# Altium integrated library IC - ECL.IntLib: 34 symbols
Pins are listed as number, name and electrical type; pins without a type are passive.

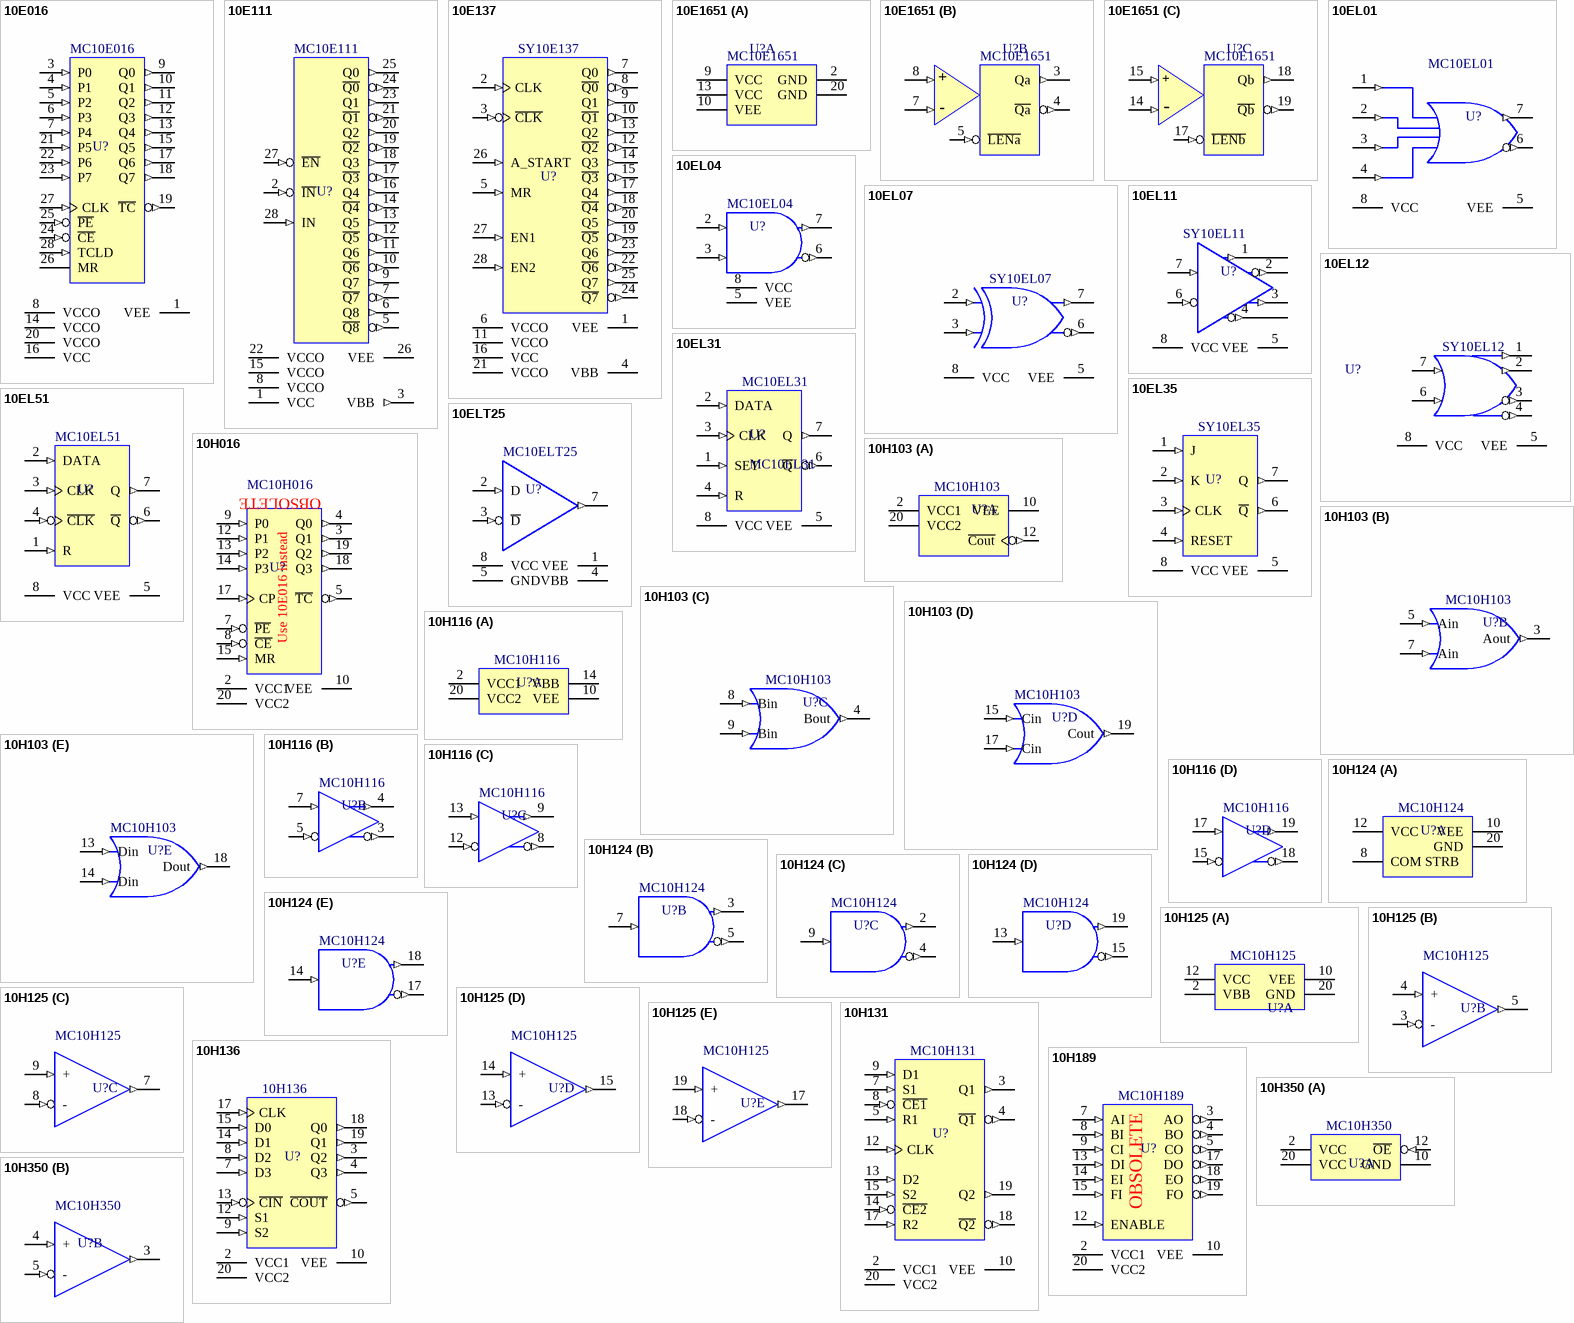
[diagram p0: symbols 10E016 to 10H350]

## 10E016
designator U?, comment MC10E016
Counter, Binary Up, Synchronous, 8-Bit, 5V, ECL; Manufacturer: ON Semiconductor; Current Output High: 100mA; Current Output Low: 50mA; Logic Type: Binary Counter; Output Type: Differential; Supply Voltage: -4.2V to -5.7V in NECL mode; Supply Voltage2: 4.2V to 5.7V in PECL mode; Package Description: PLCC; 28 Leads; Body 11.5 x 11.5 mm; Schmitt Trigger Output: *; Supplier 1: Digi-Key; Supplier 2: Mouser; Supplier 3: Newark; Supplier Part Number 1: 576-2482-ND; Supplier Part Number 2: 998-SY10E016JY; Supplier Part Number 3: 26K3738; Package Type: PLCC-28; ComponentLink1Description: Datasheet; ComponentLink1URL: \\canopus\EDA\Datasheets\ECL\10E016.pdf; Part Number: MC10E016
footprint PLCC-28 (PLCC; 28 Leads; Body 11.5 x 11.5 mm)
ibis MC10E016FN (MC10E016 simulation)
signal-integrity model MC10E016 (MC10E016 IBIS Signal Integrity Model)
3D model PLCC-28 (PCB3D Model)
pins: 1 VEE (power), 3 P0 (in), 4 P1 (in), 5 P2 (in), 6 P3 (in), 7 P4 (in), 8 VCCO (power), 9 Q0 (out), 10 Q1 (out), 11 Q2 (out), 12 Q3 (out), 13 Q4 (out), 14 VCCO (power), 15 Q5 (out), 16 VCC (power), 17 Q6 (out), 18 Q7 (out), 19 ~{TC} (out), 20 VCCO (power), 21 P5 (in), 22 P6 (in), 23 P7 (in), 24 ~{CE} (in), 25 ~{PE} (in), 26 MR, 27 CLK (in), 28 TCLD (in)

## 10E111
designator U?, comment MC10E111
Differential Clock Driver, 1:9, 5V, ECL; Manufacturer: ON Semiconductor; Current Output High: 100mA; Current Output Low: 50mA; Supply Voltage: -4.2 V to -5.7 V in NECL mode; Supply Voltage2: 4.2 V to 5.7 V in PECL mode; Logic Type: Clock Driver; Output Type: Differential; Package Description: PLCC; 28 Leads; Body 11.5 x 11.5 mm; Schmitt Trigger Output: *; Package Type: PLCC-28; Supplier 1: Digi-Key; Supplier Part Number 1: MC10E111FNGOS-ND; Supplier 2: Newark; Supplier Part Number 2: 71J5374; Supplier 3: Mouser; Supplier Part Number 3: 863-MC10E111FNG; ComponentLink1Description: Datasheet; ComponentLink1URL: \\canopus\EDA\Datasheets\ECL\10E111.PDF; Part Number: MC10E111
footprint PLCC-28 (PLCC; 28 Leads; Body 11.5 x 11.5 mm)
ibis MC10E111FN_50.IBS (10E111 simulation)
3D model PLCC-28 (PCB3D Model)
signal-integrity model MC10E111 (MC10E111 IBIS signal integrity model)
pins: 1 VCC (power), 2 ~{IN} (in), 3 VBB (out), 5 ~{Q8} (out), 6 Q8 (out), 7 ~{Q7} (out), 8 VCCO (power), 9 Q7 (out), 10 ~{Q6} (out), 11 Q6 (out), 12 ~{Q5} (out), 13 Q5 (out), 14 ~{Q4} (out), 15 VCCO (power), 16 Q4 (out), 17 ~{Q3} (out), 18 Q3 (out), 19 ~{Q2} (out), 20 Q2 (out), 21 ~{Q1} (out), 22 VCCO (power), 23 Q1 (out), 24 ~{Q0} (out), 25 Q0 (out), 26 VEE (power), 27 ~{EN} (in), 28 IN (in)

## 10E137
designator U?, comment SY10E137
Counter, Binary, 8-bit ripple, ECL; Manufacturer: Micrel Inc.; Output Type: Differential; Supply Voltage: 4.2V to 5.5V; Current Output High: *; Current Output Low: *; Logic Type: Counter; Package Type: PLCC-28; Schmitt Trigger Output: *; Supply Voltage2: *; Supplier 1: Digi-Key; Supplier Part Number 1: 576-2491-ND; Supplier 2: Mouser; Supplier Part Number 2: 998-SY10E137JZ; Package Description: PLCC; 28 Leads; Body 11.5 x 11.5 mm; ComponentLink1Description: Datasheet; ComponentLink1URL: \\canopus\EDA\Datasheets\ECL\10E137.PDF; Part Number: SY10E137
footprint PLCC-28 (PLCC; 28 Leads; Body 11.5 x 11.5 mm)
ibis MC10E137FN (10E137 simulation)
signal-integrity model 10E137 (10E137 IBIS Signal Integrity Model)
3D model PLCC-28 (PCB3D Model)
pins: 1 VEE (power), 2 CLK (in), 3 ~{CLK} (in), 4 VBB, 5 MR (in), 6 VCCO (power), 7 Q0 (out), 8 ~{Q0} (out), 9 Q1 (out), 10 ~{Q1} (out), 11 VCCO (power), 12 ~{Q2} (out), 13 Q2 (out), 14 Q3 (out), 15 ~{Q3} (out), 16 VCC (power), 17 Q4 (out), 18 ~{Q4} (out), 19 ~{Q5} (out), 20 Q5 (out), 21 VCCO (power), 22 ~{Q6} (out), 23 Q6 (out), 24 ~{Q7} (out), 25 Q7 (out), 26 A_START (in), 27 EN1 (in), 28 EN2 (in)

## 10E1651
designator U?, comment MC10E1651
Comparator with Latch, 5V, -5V, ECL; Manufacturer: ON Semiconductor; Current Output High: 100mA; Current Output Low: 50mA; Output Type: Differential; Supply Voltage: -4.2V to -5.7V, 5.0V; Logic Type: Comparator; Package Type: 9 x 9 J-Leaded; Schmitt Trigger Output: *; Supply Voltage2: *; Supplier 1: Mouser; Supplier 2: Digi-Key; Supplier 3: Newark; Supplier Part Number 1: 863-MC10E1651FNG; Supplier Part Number 2: MC10E1651FNOS-ND; Supplier Part Number 3: 26K3751; Package Description: PLCC; 20 Leads; Body 9 x 9 mm; ComponentLink1Description: Datasheet; ComponentLink1URL: \\canopus\EDA\Datasheets\ECL\10E1651.pdf; Part Number: MC10E1651
footprint PLCC-20 (PLCC; 20 Leads; Body 9 x 9 mm)
ibis MC10E1651FN (10E1651 simulation)
3D model PLCC-20 (PCB3D Model)
signal-integrity model MC10E1651 (MC10E1651 IBIS Signal Integrity Model)
part A pins: 2 GND (power), 9 VCC (power), 10 VEE (power), 13 VCC (power), 20 GND (power)
part B pins: 3 Qa (out), 4 ~{Qa} (out), 5 ~{LENa} (in), 7 V1a (in), 8 V2a (in)
part C pins: 14 V1b (in), 15 V2b (in), 17 ~{LENb} (in), 18 Qb (out), 19 ~{Qb} (out)
part B text: +; -
part C text: +; -

## 10EL01
designator U?, comment MC10EL01
OR/NOR Gate, 5V, ECL; Manufacturer: ON Semiconductor; Current Output High: 100mA; Current Output Low: 50mA; Output Type: Differential; Supply Voltage: -4.2V to -5.7V in NECL mode; Supply Voltage2: 4.2V to 5.7V in PECL mode; Logic Type: OR/NOR; Package Type: SOIC-8; Schmitt Trigger Output: *; Package Description: SOIC, 8-Leads, Body 4.9x3.9mm, Pitch 1.27mm, IPC Low Density; Supplier 1: Mouser; Supplier Part Number 1: 863-MC10EL01DG; Supplier 2: Digi-Key; Supplier Part Number 2: MC10EL01DGOS-ND; Supplier 3: Newark; Supplier Part Number 3: 45J0833; ComponentLink1Description: Datasheet; ComponentLink1URL: \\canopus\EDA\Datasheets\ECL\10EL01.pdf; Part Number: MC10EL01
footprint SOIC-8 (SOIC, 8-Leads, Body 4.9x3.9mm, Pitch 1.27mm, IPC Low Density)
ibis MC10EL01D_-52 (10EL01 simulation)
signal-integrity model 10EL01 (10EL01 IBIS Signal Integrity Model)
3D model SOIC-8 (PCB3D Model)
pins: 1 D0 (in), 2 D1 (in), 3 D2 (in), 4 D3 (in), 5 VEE (power), 6 /Q (out), 7 Q (out), 8 VCC (power)

## 10EL04
designator U?, comment MC10EL04
AND/NAND Gate, 5V, ECL; Manufacturer: ON Semiconductor; Output Type: Differential; Schmitt Trigger Output: No; Supply Voltage: -4.2V to -5.7V in NECL mode; Supply Voltage2: 4.2V to 5.7V in PECL mode; Current Output High: *; Current Output Low: *; Logic Type: AND/NAND; Package Description: SOIC, 8-Leads, Body 4.9x3.9mm, Pitch 1.27mm, IPC Low Density; Supplier 1: Newark; Supplier 2: Digi-Key; Supplier 3: Mouser; Supplier Part Number 1: 98H0612; Supplier Part Number 2: MC10EL04DGOS-ND; Supplier Part Number 3: 863-MC10EL04DTG; Package Type: SOIC-8; ComponentLink1Description: Datasheet; ComponentLink1URL: \\canopus\EDA\Datasheets\ECL\10EL04.PDF; Part Number: MC10EL04
footprint SOIC-8 (SOIC, 8-Leads, Body 4.9x3.9mm, Pitch 1.27mm, IPC Low Density)
ibis MC10EL04D (10EL04 simulation)
3D model SOIC-8 (PCB3D Model)
signal-integrity model 10EL04 (10EL04 IBIS Signal Integrity model)
pins: 2 D0 (in), 3 D1 (in), 5 VEE (power), 6 /Q (out), 7 Q (out), 8 VCC (power)

## 10EL07
designator U?, comment SY10EL07
XOR/XNOR Gate, 5V, ECL; Manufacturer: Micrel Inc.; Output Type: Differential; Supply Voltage: -4.75 to -5.5V; Supplier 1: Mouser; Supplier 2: Digi-Key; Supplier Part Number 1: 998-SY10EL07ZG; Supplier Part Number 2: 576-2503-ND; Current Output High: *; Current Output Low: *; Logic Type: XOR/XNOR; Package Description: SOIC, 8-Leads, Body 4.9x3.9mm, Pitch 1.27mm, IPC Low Density; Schmitt Trigger Output: *; Supply Voltage2: *; Package Type: SOIC-8; ComponentLink1Description: Datasheet; ComponentLink1URL: \\canopus\EDA\Datasheets\ECL\10EL07.pdf; Part Number: SY10EL07
footprint SOIC-8 (SOIC, 8-Leads, Body 4.9x3.9mm, Pitch 1.27mm, IPC Low Density)
ibis MC10EL07D_50 (10EL07 +5V simulation)
ibis MC10EL07D_-50 (10EL07 -5.2V simulation)
signal-integrity model 10EL07 5V (10EL07 5V IBIS Signal Integrity Model)
3D model SOIC-8 (PCB3D Model)
pins: 2 D0 (in), 3 D1 (in), 5 VEE (power), 6 /Q (out), 7 Q (out), 8 VCC (power)

## 10EL11
designator U?, comment SY10EL11
Fanout Buffer, Differential, 1:2, 5V/3.3V, ECL; Manufacturer: Micrel Inc.; Output Type: Differential Clock; Supply Voltage: 3.3V and 5.0V; Current Output High: *; Current Output Low: *; Package Description: SOIC, 8-Leads, Body 4.9x3.9mm, Pitch 1.27mm, IPC Low Density; Schmitt Trigger Output: *; Supply Voltage2: *; Supplier 1: Digi-Key; Supplier Part Number 1: 576-1370-ND; Supplier 2: Mouser; Supplier Part Number 2: 998-SY10EL11VZG; ComponentLink1Description: Datasheet; ComponentLink1URL: \\canopus\EDA\Datasheets\ECL\10EL11.pdf; Package Type: SOIC-8; Part Number: SY10EL11
ibis MC10EL11DT_50 (Model Description)
footprint SOIC-8 (SOIC, 8-Leads, Body 4.9x3.9mm, Pitch 1.27mm, IPC Low Density)
3D model SOIC-8 (PCB3D Model)
signal-integrity model 10EL11 (10EL11 IBIS Signal Integrity Model)
pins: 1 Q0 (out), 2 /Q0 (out), 3 Q1 (out), 4 /Q1 (out), 5 VEE (power), 6 /D (in), 7 D (in), 8 VCC (power)

## 10EL12
designator U?, comment SY10EL12
Driver, Low Impedance, non-inverting, 5V, ECL; Manufacturer: ON Semiconductor; Logic Type: Buffer/Line Driver; Output Type: OR/NOR; Supply Voltage: -4.2V to -5.7V in NECL mode; Supply Voltage2: 4.2V to 5.7V in PECL mode; Current Output High: *; Current Output Low: *; Package Description: SOIC, 8-Leads, Body 4.9x3.9mm, Pitch 1.27mm, IPC Low Density; Schmitt Trigger Output: *; Supplier 1: Digi-Key; Supplier 2: Mouser; Supplier Part Number 1: 576-2504-ND; Supplier Part Number 2: 998-SY10EL12ZG; Package Type: SOIC-8; ComponentLink1Description: Datasheet; ComponentLink1URL: \\canopus\EDA\Datasheets\ECL\10EL12.pdf; Part Number: SY10EL12
footprint SOIC-8 (SOIC, 8-Leads, Body 4.9x3.9mm, Pitch 1.27mm, IPC Low Density)
3D model SOIC-8 (PCB3D Model)
pins: 1 QA (out), 2 QB (out), 3 /QA (out), 4 /QB (out), 5 VEE (power), 6 D1 (in), 7 D0 (in), 8 VCC (power)

## 10EL31
designator U?, comment MC10EL31
Flip-Flop, D-type, with Set and Reset, 5V, ECL; Manufacturer: ON Semiconductor; Logic Type: D-type Flip-Flop; Output Type: Differential; Supply Voltage: -4.2V to -5.7V in NECL mode; Supply Voltage2: 4.2V to 5.7V in PECL mode; Current Output High: *; Current Output Low: *; Package Description: SOIC, 8-Leads, Body 4.9x3.9mm, Pitch 1.27mm, IPC Low Density; Schmitt Trigger Output: *; Supplier 1: Digi-Key; Supplier Part Number 1: MC10EL31DGOS-ND; Supplier 2: Mouser; Supplier Part Number 2: 863-MC10EL31DG; Supplier 3: Newark; Supplier Part Number 3: 27W1136; Package Type: SOIC-8; ComponentLink1Description: Datasheet; ComponentLink1URL: \\canopus\EDA\Datasheets\ECL\10EL31.PDF; Part Number: MC10EL31
footprint SOIC-8 (SOIC, 8-Leads, Body 4.9x3.9mm, Pitch 1.27mm, IPC Low Density)
ibis MC10EL31D_50 (10EL31 +5V simulation)
ibis MC10EL31D_-50 (10EL31 -5.2V simulation)
signal-integrity model Model Name (Model Description)
3D model SOIC-8 (PCB3D Model)
pins: 1 SET (in), 2 DATA (in), 3 CLK (in), 4 R (in), 5 VEE (power), 6 ~{Q} (out), 7 Q (out), 8 VCC (power)

## 10EL35
designator U?, comment SY10EL35
Flip-Flop, JK-type, 5V, ECL; Manufacturer: Micrel Inc.; Logic Type: Flip-Flop, JK Type; Output Type: Differential; Supply Voltage: -4.75V to -5.5V; Current Output High: *; Current Output Low: *; Package Description: SOIC, 8-Leads, Body 4.9x3.9mm, Pitch 1.27mm, IPC Low Density; Schmitt Trigger Output: *; Supply Voltage2: *; Package Type: SOIC-8; Supplier 1: Digi-Key; Supplier Part Number 1: SY10EL35ZG-ND; Supplier 2: Mouser; Supplier Part Number 2: 998-SY10EL35ZG; ComponentLink1Description: Datasheet; ComponentLink1URL: \\canopus\EDA\Datasheets\ECL\10EL35.pdf; Part Number: SY10EL35
footprint SOIC-8 (SOIC, 8-Leads, Body 4.9x3.9mm, Pitch 1.27mm, IPC Low Density)
ibis MC10EL35D (10EL35 simulation)
3D model SOIC-8 (PCB3D Model)
signal-integrity model 10EL35 (10EL35 IBIS Signal Integrity Model)
pins: 1 J (in), 2 K (in), 3 CLK (in), 4 RESET (in), 5 VEE (power), 6 ~{Q} (out), 7 Q (out), 8 VCC (power)

## 10EL51
designator U?, comment MC10EL51
Flip-Flop, D-type, with reset, 5V, ECL; Manufacturer: ON Semiconductor; Output Type: Differential; Supply Voltage: -4.2V to -5.7V; Current Output High: *; Current Output Low: *; Logic Type: D-Type; Package Description: SOIC, 8-Leads, Body 4.9x3.9mm, Pitch 1.27mm, IPC Low Density; Schmitt Trigger Output: *; Supply Voltage2: *; Supplier 1: Newark; Supplier Part Number 1: 98H0618; Supplier 2: Digi-Key; Supplier Part Number 2: MC10EL51DGOS-ND; Package Type: SOIC-8; ComponentLink1Description: Datasheet; ComponentLink1URL: \\canopus\EDA\Datasheets\ECL\10EL51.PDF; Part Number: MC10EL51
footprint SOIC-8 (SOIC, 8-Leads, Body 4.9x3.9mm, Pitch 1.27mm, IPC Low Density)
ibis MC10EL51D (10EL51 simulation)
signal-integrity model 10EL51 (10EL51 IBIS Signal Integrity Model)
3D model SOIC-8 (PCB3D Model)
pins: 1 R (in), 2 DATA (in), 3 CLK (in), 4 ~{CLK} (in), 5 VEE (power), 6 ~{Q} (out), 7 Q (out), 8 VCC (power)

## 10ELT25
designator U?, comment MC10ELT25
Translator, ECL to TTL, Differential, -5V; Manufacturer: ON Semiconductor; Supply Voltage: -4.2V to -5.7V; Supply Voltage2: 4.5V to 5.5V; Current Output High: *; Current Output Low: *; Logic Type: Differential; Output Type: TTL; Package Description: SOIC, 8-Leads, Body 4.9x3.9mm, Pitch 1.27mm, IPC Low Density; Schmitt Trigger Output: *; Supplier 1: Newark; Supplier Part Number 1: 42K0043; Package Type: SOIC-8; ComponentLink1Description: Datasheet; ComponentLink1URL: \\canopus\EDA\Datasheets\ECL\10ELT25.pdf; Part Number: MC10ELT25
footprint SOIC-8 (SOIC, 8-Leads, Body 4.9x3.9mm, Pitch 1.27mm, IPC Low Density)
3D model SOIC-8 (PCB3D Model)
ibis MC10ELT25D (MC10ELT25 IBIS Model)
signal-integrity model MC10ELT25 (MC10ELT25 IBIS Signal  Integrity Model)
pins: 1 VEE (power), 2 D (in), 3 ~{D} (in), 4 VBB (power), 5 GND (power), 7 Q (out) "TTL", 8 VCC (power)

## 10H016
designator U?, comment Part Number: MC10H016  (hidden comment: No means to verify as I couldn't find a PLCC-20 pinout for this device.)
Counter, 4-bit, binary, ECL; Manufacturer: ON Semiconductor; Current Output High: 100mA; Current Output Low: 50mA; Logic Type: Binary Counter; Output Type: Up Count; Supply Voltage: -8.0V to 0V; Package Description: PLCC; 20 Leads; Body 9 x 9 mm; Schmitt Trigger Output: *; Supply Voltage2: *; Package Type: PLCC-20; ComponentLink1Description: Datasheet; ComponentLink1URL: \\canopus\EDA\Datasheets\ECL\10H016.pdf
footprint PLCC-20 (PLCC; 20 Leads; Body 9 x 9 mm)
3D model PLCC-20 (PCB3D Model)
pins: 2 VCC1 (power), 3 Q1 (out), 4 Q0 (out), 5 ~{TC} (out), 7 ~{PE} (in), 8 ~{CE} (in), 9 P0 (in), 10 VEE (power), 12 P1 (in), 13 P2 (in), 14 P3 (in), 15 MR (in), 17 CP (in), 18 Q3 (out), 19 Q2 (out), 20 VCC2 (power)
text: OBSOLETE; Use 10E016 instead

## 10H103
designator U?, comment Part Number: MC10H103  (hidden comment: MC10H103FNG)
OR Gate, ECL; Manufacturer: ON Semiconductor; Current Output High: 50mA; Logic Type: OR Gate; Output Type: OR/NOR; Supply Voltage: -8.0V to 0V; Current Output Low: 50mA; Package Description: PLCC; 20 Leads; Body 9 x 9 mm; Package Type: PLCC-20; Schmitt Trigger Output: *; Supply Voltage2: *; Supplier 1: Digi-Key; Supplier Part Number 1: MC10H103FNG-ND; Supplier 2: Allied; Supplier Part Number 2: 70100498; Supplier 3: Mouser; Supplier Part Number 3: 863-MC10H103FNG; Supplier 4: Newark; Supplier Part Number 4: 42K0199; ComponentLink1Description: Datasheet; ComponentLink1URL: \\canopus\EDA\Datasheets\ECL\10H103.pdf
footprint PLCC-20 (PLCC; 20 Leads; Body 9 x 9 mm)
3D model PLCC-20 (PCB3D Model)
part A pins: 2 VCC1 (power), 10 VEE (power), 12 ~{Cout} (out), 20 VCC2 (power)
part B pins: 3 Aout (out), 5 Ain (in), 7 Ain (in)
part C pins: 4 Bout (out), 8 Bin (in), 9 Bin (in)
part D pins: 15 Cin (in), 17 Cin (in), 19 Cout (out)
part E pins: 13 Din (in), 14 Din (in), 18 Dout (out)

## 10H116
designator U?, comment Part Number: MC10H116  (hidden comment: MC10H116FN)
Receiver, Triple Line, ECL; Manufacturer: ON Semiconductor; Supply Voltage: 4.94V to 5.46V; Current Output High: *; Current Output Low: *; Logic Type: Receiver; Output Type: *; Package Description: PLCC; 20 Leads; Body 9 x 9 mm; Schmitt Trigger Output: *; Supply Voltage2: *; Package Type: PLCC-20; Supplier 1: Mouser; Supplier Part Number 1: 863-MC10H116FNG; Supplier 2: Digi-Key; Supplier Part Number 2: MC10H116FNGOS-ND; Supplier 3: Newark; Supplier Part Number 3: 45J0871; ComponentLink1Description: Datasheet; ComponentLink1URL: \\canopus\EDA\Datasheets\ECL\10H116.PDF
footprint PLCC-20 (PLCC; 20 Leads; Body 9 x 9 mm)
ibis MC10H116FN (10H116 -5.2V simulation)
3D model PLCC-20 (PCB3D Model)
part A pins: 2 VCC1 (power), 10 VEE (power), 14 VBB (power), 20 VCC2 (power)
part B pins: 3 /Aout (out), 4 Aout (out), 5 /Ain (in), 7 Ain (in)
part C pins: 8 /Bout (out), 9 Bout (out), 12 /Bin (in), 13 Bin (in)
part D pins: 15 /Cin (in), 17 Cin (in), 18 /Cout (out), 19 Cout (out)

## 10H124
designator U?, comment MC10H124
Translator, TTL to MECL, 5V; Manufacturer: ON Semiconductor; Current Output High: 100mA; Current Output Low: 50mA; Logic Type: OR/NOR; Supply Voltage: 4.75V to 5.25V; Supplier 1: Newark; Supplier Part Number 1: 61M7700; Supplier 2: Digi-Key; Supplier Part Number 2: MC10H124FNGOS-ND; Supplier 3: Mouser; Supplier Part Number 3: 863-MC10H124PG; Output Type: MECL; Package Description: PLCC; 20 Leads; Body 9 x 9 mm; Schmitt Trigger Output: *; Supply Voltage2: *; Package Type: PLCC-20; ComponentLink1Description: Datasheet; ComponentLink1URL: \\canopus\EDA\Datasheets\ECL\10H124.PDF; Part Number: MC10H124
footprint PLCC-20 (PLCC; 20 Leads; Body 9 x 9 mm)
3D model PLCC-20 (PCB3D Model)
ibis MC10H124P (Model Description)
part A pins: 8 COM STRB (power), 10 VEE (power), 12 VCC (power), 20 GND (power)
part B pins: 3 Aout (out), 5 /Aout (out), 7 Ain (in)
part C pins: 2 Bout (out), 4 /Bout (out), 9 Bin (in)
part D pins: 13 Cin (in), 15 /Cout (out), 19 Cout (out)
part E pins: 14 Din (in), 17 /Dout (out), 18 Dout (out)

## 10H125
designator U?, comment Part Number: MC10H125  (hidden comment: MC10H125FNG)
Translator, MECL-to-TTL, ECL; Manufacturer: ON Semiconductor; Output Type: TTL, Differential; Supply Voltage: 4.75V to 5.25V; Current Output High: *; Current Output Low: *; Logic Type: Translator; Package Description: PLCC; 20 Leads; Body 9 x 9 mm; Schmitt Trigger Output: *; Supply Voltage2: *; Supplier 1: Newark; Supplier Part Number 1: 45J0875; Supplier 2: Digi-Key; Supplier Part Number 2: MC10H125FNGOS-ND; Supplier 3: Mouser; Supplier Part Number 3: 863-MC10H125PG; Package Type: PLCC-20; ComponentLink1Description: Datasheet; ComponentLink1URL: \\canopus\EDA\Datasheets\ECL\10H125.PDF
footprint PLCC-20 (PLCC; 20 Leads; Body 9 x 9 mm)
3D model PLCC-20 (PCB3D Model)
ibis MC10H125P (10H125 IBIS Model)
signal-integrity model 10H125 (10H125 IBIS Signal Integrity Model)
part A pins: 2 VBB (power), 10 VEE (power), 12 VCC (power), 20 GND (power)
part B pins: 3 - (in), 4 + (in), 5 OUT (out)
part C pins: 7 OUT (out), 8 - (in), 9 + (in)
part D pins: 13 - (in), 14 + (in), 15 OUT (out)
part E pins: 17 OUT (out), 18 - (in), 19 + (in)

## 10H131
designator U?, comment Part Number: MC10H131  (hidden comment: MC10H131FNG)
Flip Flop, D-Type, with Set and Reset, ECL; Manufacturer: ON Semiconductor; Output Type: Differential; Supply Voltage: -4.9V to -5.46V; Current Output High: *; Current Output Low: *; Package Description: PLCC; 20 Leads; Body 9 x 9 mm; Package Type: PLCC-20; Schmitt Trigger Output: *; Supply Voltage2: *; ComponentLink1Description: Datasheet; ComponentLink1URL: \\canopus\EDA\Datasheets\ECL\10H131.PDF; Supplier 1: Allied; Supplier Part Number 1: 70100505; Supplier 2: Digi-Key; Supplier Part Number 2: MC10H131FNGOS-ND; Supplier 3: Mouser; Supplier Part Number 3: 863-MC10H131FNG
footprint PLCC-20 (PLCC; 20 Leads; Body 9 x 9 mm)
3D model PLCC-20 (PCB3D Model)
ibis MC10H131P (MC10H131 IBIS Model)
signal-integrity model 10H131 (10H131 IBIS Signal integrity Model)
pins: 2 VCC1 (power), 3 Q1 (out), 4 ~{Q1} (out), 5 R1 (in), 7 S1 (in), 8 ~{CE1} (in), 9 D1 (in), 10 VEE (power), 12 CLK (in), 13 D2 (in), 14 ~{CE2} (in), 15 S2 (in), 17 R2 (in), 18 ~{Q2} (out), 19 Q2 (out), 20 VCC2 (power)

## 10H136
designator U?, comment Part Number: 10H136  (hidden comment: 10H136FNG)
Counter, Up/Down, Binary, ECL; Manufacturer: ON Semiconductor; Current Output High: 100mA; Current Output Low: 50mA; Supply Voltage: -8.0V to 0V; Output Type: *; Package Description: PLCC; 20 Leads; Body 9 x 9 mm; Package Type: PLCC-20; Schmitt Trigger Output: *; Supply Voltage2: *; ComponentLink1Description: Datasheet; ComponentLink1URL: \\canopus\EDA\Datasheets\ECL\10H136.pdf; Supplier 1: Mouser; Supplier Part Number 1: 863-MC10H136FNG; Supplier 2: Digi-Key; Supplier Part Number 2: MC10H136FNG-ND
footprint PLCC-20 (PLCC; 20 Leads; Body 9 x 9 mm)
3D model PLCC-20 (PCB3D Model)
ibis MC10H136L (10H136 IBIS Model)
signal-integrity model 10H136 (10H136 IBIS Signal Integrity Model)
pins: 2 VCC1 (power), 3 Q2 (out), 4 Q3 (out), 5 ~{COUT} (out), 7 D3 (in), 8 D2 (in), 9 S2 (in), 10 VEE (power), 12 S1 (in), 13 ~{CIN} (in), 14 D1 (in), 15 D0 (in), 17 CLK (in), 18 Q0 (out), 19 Q1 (out), 20 VCC2 (power)

## 10H189
designator U?, comment MC10H189
Inverter, Hex, with Enable, ECL; Manufacturer: ON Semiconductor; Current Output High: 100mA; Current Output Low: 50mA; Supply Voltage: -8.0V to 0V; Logic Type: Inverter; Package Description: PLCC; 20 Leads; Body 9 x 9 mm; Package Type: PLCC-20; Schmitt Trigger Output: *; Supply Voltage2: *; ComponentLink1Description: Datasheet; ComponentLink1URL: \\canopus\EDA\Datasheets\ECL\10H189.pdf; Part Number: MC10H189
footprint PLCC-20 (PLCC; 20 Leads; Body 9 x 9 mm)
3D model PLCC-20 (PCB3D Model)
pins: 2 VCC1 (power), 3 AO (out), 4 BO (out), 5 CO (out), 7 AI (in), 8 BI (in), 9 CI (in), 10 VEE (power), 12 ENABLE (in), 13 DI (in), 14 EI (in), 15 FI (in), 17 DO (out), 18 EO (out), 19 FO (out), 20 VCC2 (power)
text: OBSOLETE

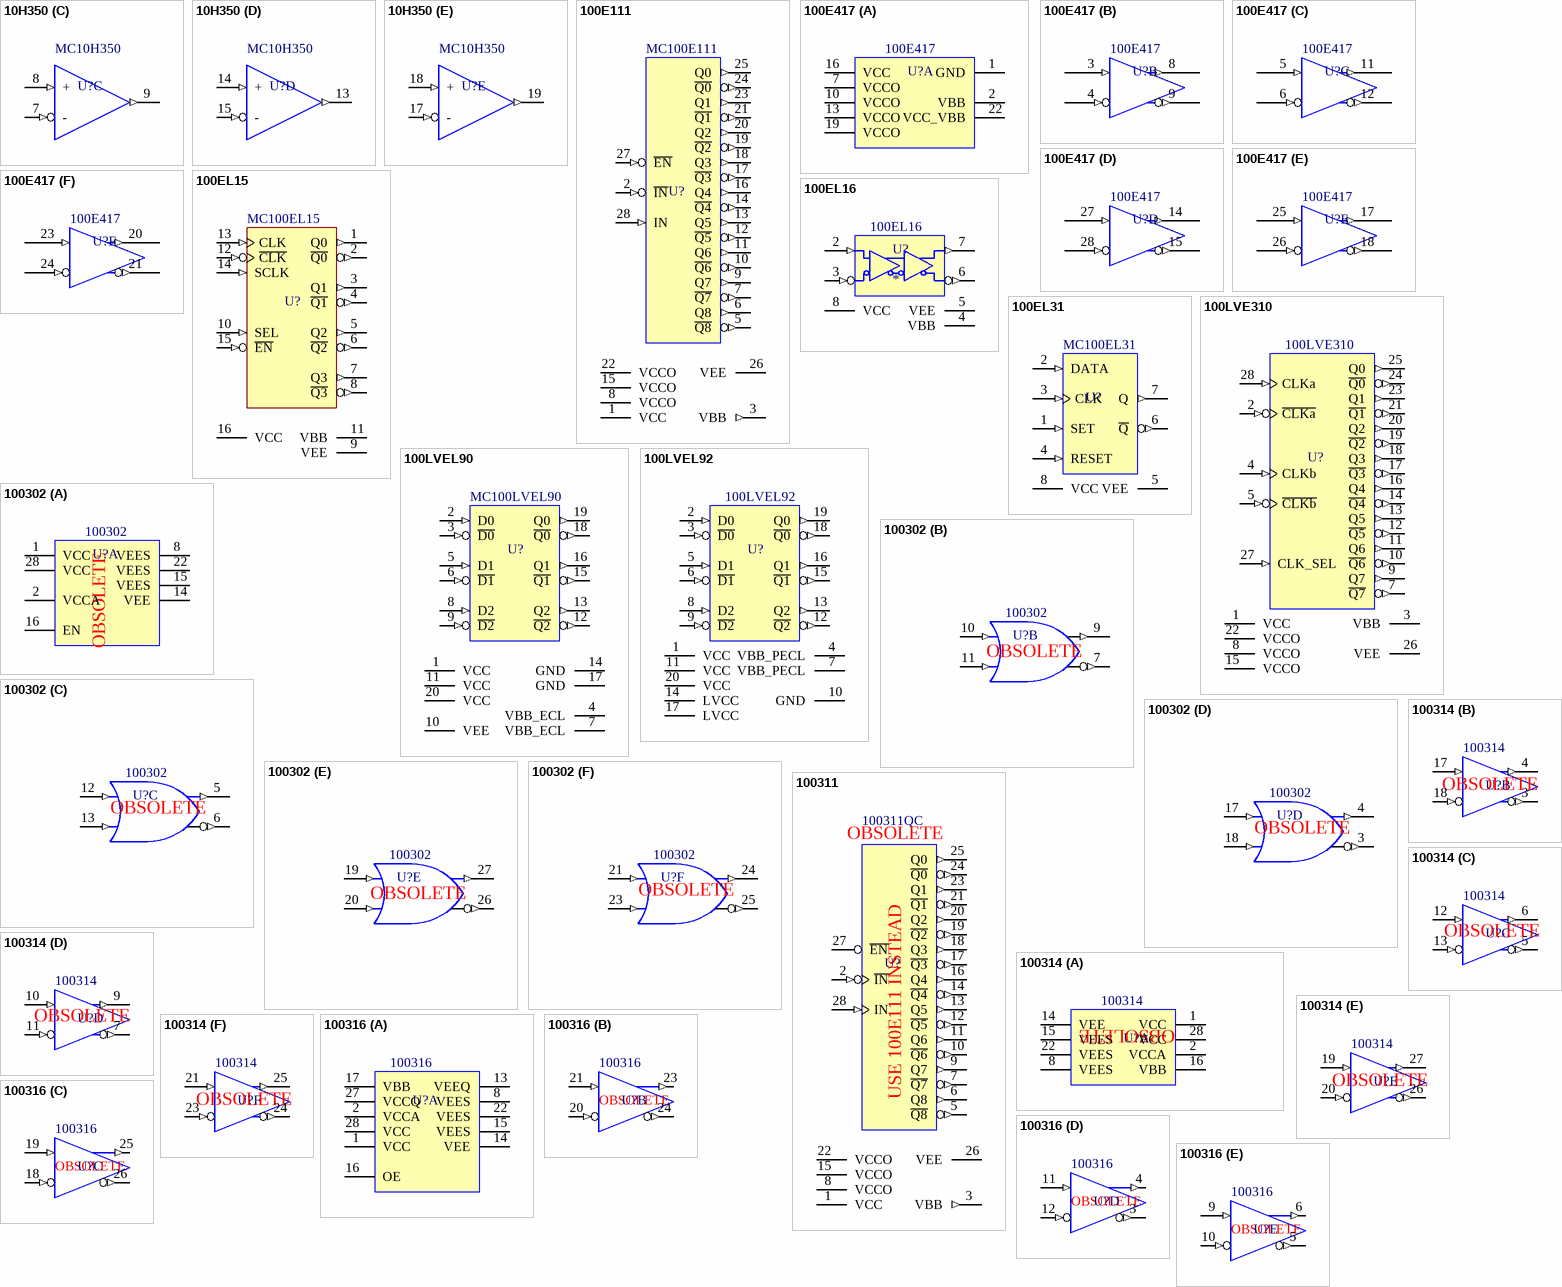
[diagram p1: symbols 10H350 to 100316]

## 10H350
designator U?, comment MC10H350
Translator, PECL-to-TTL, 5V, ECL; Manufacturer: ON Semiconductor; Current Output High: 50uA; Current Output Low: -50uA; Output Type: TTL; Supply Voltage: 7.0V; Supplier 1: Digi-Key; Supplier Part Number 1: 576-2526-ND; Supplier 2: Mouser; Supplier Part Number 2: 863-MC10H350FNG; Logic Type: Translator; Package Description: PLCC; 20 Leads; Body 9 x 9 mm; Package Type: PLCC-20; Schmitt Trigger Output: *; Supply Voltage2: *; ComponentLink1Description: Datasheet; ComponentLink1URL: \\canopus\EDA\Datasheets\ECL\10H350.pdf; Part Number: MC10H350
footprint PLCC-20 (PLCC; 20 Leads; Body 9 x 9 mm)
3D model PLCC-20 (PCB3D Model)
ibis MC10H350P (Model Description)
signal-integrity model MC10H350 (MC10H350 IBIS Signal Integrtiy modle)
part A pins: 2 VCC (power), 10 GND (power), 12 ~{OE} (in), 20 VCC (power)
part B pins: 3 OUT (out), 4 + (in), 5 - (in)
part C pins: 7 - (in), 8 + (in), 9 OUT (out)
part D pins: 13 OUT (out), 14 + (in), 15 - (in)
part E pins: 17 - (in), 18 + (in), 19 OUT (out)

## 100E111
designator U?, comment MC100E111
Differential Clock Driver, 1:9, 5V, ECL; Manufacturer: ON Semiconductor; Logic Type: Fanout Buffer; Current Output High: 100mA; Current Output Low: 50mA; Supply Voltage: -4.2 V to -5.7 V in NECL mode; Supply Voltage2: 4.2 V to 5.7 V in PECL mode; Supplier 1: Newark; Supplier 2: Mouser; Supplier Part Number 1: 45J0952; Supplier Part Number 2: 863-MC100E111FNG; Schmitt Trigger Output: *; Output Type: Differential; Package Description: PLCC; 28 Leads; Body 11.5 x 11.5 mm; Supplier 3: Digi-Key; Supplier Part Number 3: MC100E111FNGOS-ND; ComponentLink1Description: Datasheet; ComponentLink1URL: \\canopus\EDA\Datasheets\ECL\100E111.pdf; Package Type: PLCC-28; Part Number: MC100E111
footprint PLCC-28 (PLCC; 28 Leads; Body 11.5 x 11.5 mm)
ibis MC100E111FN_50 (100E111 +5V simulation)
ibis MC100E111FN_-52 (100E111 -5.2V simulation)
3D model PLCC-28 (PCB3D Model)
signal-integrity model 100E111 (100E111 IBIS Signal integrity model)
pins: 1 VCC (power), 2 ~{IN} (in), 3 VBB (out), 5 ~{Q8} (out), 6 Q8 (out), 7 ~{Q7} (out), 8 VCCO (power), 9 Q7 (out), 10 ~{Q6} (out), 11 Q6 (out), 12 ~{Q5} (out), 13 Q5 (out), 14 ~{Q4} (out), 15 VCCO (power), 16 Q4 (out), 17 ~{Q3} (out), 18 Q3 (out), 19 ~{Q2} (out), 20 Q2 (out), 21 ~{Q1} (out), 22 VCCO (power), 23 Q1 (out), 24 ~{Q0} (out), 25 Q0 (out), 26 VEE (power), 27 ~{EN} (in), 28 IN (in)

## 100E417
designator U?
Translator, LVPECL-to-PECL or PECL-to-LVPECL; Manufacturer: Micrel Inc; Output Type: Differential; Supply Voltage: 4.5 - 5.5 V in PECL-LVPECL mode; Supply Voltage2: 3.0 V to 3.8 V and 4.5 V to 5.5 V in LVPECL to PECL mode; Logic Type: Translator; Current Output High: *; Current Output Low: *; Package Description: PLCC; 28 Leads; Body 11.5 x 11.5 mm; Supplier 1: Digi-Key; Supplier 2: Arrow; Supplier 3: Mouser; Supplier Part Number 1: 576-1348-1-ND; Supplier Part Number 2: IKSWGOFD55eYHD6m3Y3XzMWFqxsDeViBGMDKutxaFdc; Supplier Part Number 3: 998-SY100E417JY; ComponentLink1Description: Datasheet; ComponentLink1URL: \\canopus\EDA\Datasheets\ECL\100E417.pdf; Package Type: PLCC-28; Part Number: 100E417
footprint PLCC-28 (PLCC; 28 Leads; Body 11.5 x 11.5 mm)
3D model PLCC-28 (PCB3D Model)
part A pins: 1 GND (power), 2 VBB, 7 VCCO (power), 10 VCCO (power), 13 VCCO, 16 VCC (power), 19 VCCO (power), 22 VCC_VBB
part B pins: 3 D0 (in), 4 /D0 (in), 8 Q0 (out), 9 /Q0 (out)
part C pins: 5 D1 (in), 6 /D1 (in), 11 Q1 (out), 12 /Q1 (out)
part D pins: 14 Q2 (out), 15 /Q2 (out), 27 D2 (in), 28 /D2 (in)
part E pins: 17 Q3 (out), 18 /Q3 (out), 25 D3 (in), 26 /D3 (in)
part F pins: 20 Q4 (out), 21 /Q4 (out), 23 D4 (in), 24 /D4 (in)

## 100EL15
designator U?, comment Part Number: MC100EL15  (hidden comment: MC100EL15DG)
Clock Distribution, 1:4, 5V, ECL; Manufacturer: ON Semiconductor; Current Output High: 100mA; Current Output Low: 50mA; Output Type: Differential; Supply Voltage: -4.2 V to -5.7 V in NECL mode; Supply Voltage2: 4.2 V to 5.7 V in PECL mode; Logic Type: Clock Distribution; Package Type: SOIC-16; Schmitt Trigger Output: *; ComponentLink1Description: Datasheet; ComponentLink1URL: \\canopus\EDA\Datasheets\ECL\100EL15.PDF; Supplier 1: Mouser; Supplier Part Number 1: 863-MC100EL15DG; Supplier 2: Digi-Key; Supplier Part Number 2: MC100EL15DGOS-ND; Supplier 3: Newark; Supplier Part Number 3: 42K0357
footprint SOIC-16 (SOIC, 16-Leads, Body 9.9x3.9mm, Pitch 1.27mm, IPC Low Density)
ibis MC100EL15D_-52 (100EL15 -5.2V simulation)
3D model SOIC-16 (PCB3D Model)
signal-integrity model 100EL15 (100EL15 IBIS Signal integrity model)
pins: 1 Q0 (out), 2 ~{Q0} (out), 3 Q1 (out), 4 ~{Q1} (out), 5 Q2 (out), 6 ~{Q2} (out), 7 Q3 (out), 8 ~{Q3} (out), 9 VEE (power), 10 SEL (in), 11 VBB, 12 ~{CLK} (in), 13 CLK (in), 14 SCLK (in), 15 ~{EN} (in), 16 VCC (power)

## 100EL16
designator U?  Part Number: 100EL16
Receiver, 5V, ECL; Manufacturer: Micrel Inc.  (ON Semiconductor version obsolete); Current Output High: 100mA; Current Output Low: 50mA; Output Type: Differential; Supply Voltage: -4.2V to -5.7V in NECL mode; Supply Voltage2: 4.2V to 5.7V in PECL mode; Logic Type: Receiver; Package Type: SOIC-8; Schmitt Trigger Output: *; Supplier 1: Digi-Key; Supplier 2: Mouser; Supplier Part Number 1: 576-1557-1-ND; Supplier Part Number 2: 998-SY100EL16VZGTR; ComponentLink1Description: Datasheet; ComponentLink1URL: \\canopus\EDA\Datasheets\ECL\100EL16.pdf; Package Description: SOIC, 8-Leads, Body 4.9x3.9mm, Pitch 1.27mm, IPC Low Density
footprint SOIC-8 (SOIC, 8-Leads, Body 4.9x3.9mm, Pitch 1.27mm, IPC Low Density)
ibis MC100EL16D_50 (100EL16 +5V simulation)
ibis MC100EL16D_-52 (100EL16 -5.2V simulation)
signal-integrity model 100EL16 (100EL16 IBIS Signal Integrity Model)
3D model SOIC-8 (PCB3D Model)
pins: 2 D (in), 3 /D (in), 4 VBB (power), 5 VEE (power), 6 /Q (out), 7 Q (out), 8 VCC (power)

## 100EL31
designator U?, comment Part Number: MC100EL31  (hidden comment: MC10EL31DG)
Flip-Flop, D-Type, with Set and Reset, 5V, ECL; Manufacturer: ON Semiconductor; Current Output High: 100mA; Current Output Low: 50mA; Logic Type: D Flip-Flop; Output Type: Differential; Supply Voltage: -4.2V to -5.7V in NECL mode; Supply Voltage2: 4.2V to 5.7V in PECL mode; Package Description: SOIC, 8-Leads, Body 4.9x3.9mm, Pitch 1.27mm, IPC Low Density; Schmitt Trigger Output: *; Supplier 1: Mouser; Supplier Part Number 1: 863-MC10EL31DG; Supplier 2: Digi-Key; Supplier Part Number 2: MC10EL31DGOS-ND; Supplier 3: Newark; Supplier Part Number 3: 98H0615; ComponentLink1Description: Datasheet; ComponentLink1URL: \\canopus\EDA\Datasheets\ECL\100EL31.pdf
footprint SOIC-8 (SOIC, 8-Leads, Body 4.9x3.9mm, Pitch 1.27mm, IPC Low Density)
ibis MC100EL31D (100EL31 simulation)
3D model SOIC-8 (PCB3D Model)
signal-integrity model 100EL31D (100EL31D IBIS Signal Integrity Model)
pins: 1 SET (in), 2 DATA (in), 3 CLK (in), 4 RESET (in), 5 VEE (power), 6 ~{Q} (out), 7 Q (out), 8 VCC (power)

## 100LVE310
designator U?, comment Part Number: 100LVE310  (hidden comment: MC100LVE310FNG)
Differential Fanout Buffer, 2:8, low voltage, ECL/PECL; Manufacturer: ON Semiconductor; Supply Voltage: -3.0 V to -3.8 V in PECL mode; Supply Voltage2: 3.0 V to 3.8 V in ECL mode; Logic Type: Differential Fanout Buffer; Output Type: Differential; Current Output High: *; Current Output Low: *; Package Description: PLCC; 28 Leads; Body 11.5 x 11.5 mm; ComponentLink1Description: Datasheet; ComponentLink1URL: \\canopus\EDA\Datasheets\ECL\100LVE310.pdf; Supplier 1: Digi-Key; Supplier Part Number 1: MC100LVE310FNGOS-ND; Supplier 2: Mouser; Supplier Part Number 2: 863-MC100LVE310FNG
footprint PLCC-28 (PLCC; 28 Leads; Body 11.5 x 11.5 mm)
ibis MC100LVE310FN_33 (100LVE310 3.3V simulation)
signal-integrity model 100LVE310 (100LVE310 IBIS Signal integrity model)
3D model PLCC-28 (PCB3D Model)
pins: 1 VCC (oe), 2 ~{CLKa} (in), 3 VBB, 4 CLKb (in), 5 ~{CLKb} (in), 7 ~{Q7} (out), 8 VCCO (power), 9 Q7 (out), 10 ~{Q6} (out), 11 Q6 (out), 12 ~{Q5} (out), 13 Q5 (out), 14 ~{Q4} (out), 15 VCCO (power), 16 Q4 (out), 17 ~{Q3} (out), 18 Q3 (out), 19 ~{Q2} (out), 20 Q2 (out), 21 ~{Q1} (out), 22 VCCO (power), 23 Q1 (out), 24 ~{Q0} (out), 25 Q0 (out), 26 VEE (oe), 27 CLK_SEL (in), 28 CLKa (in)

## 100LVEL90
designator U?, comment MC100LVEL90
Translator, ECL-to-LVPECL, -3.3V/-5V, ECL; Manufacturer: ON Semiconductor; Output Type: Differential; Supply Voltage: -3.0 to -3.8 V and -4.5 to -5.5 V; Current Output High: *; Current Output Low: *; Logic Type: Translator; Package Description: Small Outline; 20 Leads; Body Width 7.5 mm; Pitch 1.27 mm; Schmitt Trigger Output: *; Supply Voltage2: *; Supplier 1: Digi-Key; Supplier 2: Newark; Supplier 3: Mouser; Supplier Part Number 1: MC100LVEL90DWGOS-ND; Supplier Part Number 2: 26K3916; Supplier Part Number 3: 863-MC100LVEL90DWG; ComponentLink1Description: Datasheet; ComponentLink1URL: \\canopus\EDA\Datasheets\ECL\100LVEL90.PDF; Package Type: SOIC-20 (Wide); Part Number: MC100LVEL90
footprint SOIC-20-WIDE (Small Outline; 20 Leads; Body Width 7.5 mm; Pitch 1.27 mm)
3D model SO-20_(Wide) (PCB3D Model)
ibis mc100lvel90dw (Model Description)
signal-integrity model 100LVEL90 (100LVEL90 IBIS Signal Integrity model)
pins: 1 VCC (power), 2 D0 (in), 3 ~{D0} (in), 4 VBB_ECL, 5 D1 (in), 6 ~{D1} (in), 7 VBB_ECL, 8 D2 (in), 9 ~{D2} (in), 10 VEE (power), 11 VCC (power), 12 ~{Q2} (out), 13 Q2 (out), 14 GND (power), 15 ~{Q1} (out), 16 Q1 (out), 17 GND (power), 18 ~{Q0} (out), 19 Q0 (out), 20 VCC (power)

## 100LVEL92
designator U?
Translator, PECL-to-LVPECL, 5V, ECL; Manufacturer: ON Semiconductor; Output Type: Differential; Supply Voltage: 3.0V to 3.8V, 4.5V to 5.5V; Supplier 1: Digi-Key; Supplier 2: Mouser; Supplier Part Number 1: MC100LVEL92DWGOS-ND; Supplier Part Number 2: 863-MC100LVEL92DWG; Current Output High: *; Current Output Low: *; Logic Type: Translator; Package Type: SOIC-20 (Wide); Schmitt Trigger Output: *; Supply Voltage2: *; ComponentLink1Description: Datasheet; ComponentLink1URL: \\canopus\EDA\Datasheets\ECL\100LVEL92.PDF; Package Description: SO-20W; Part Number: 100LVEL92
footprint SOIC-20-WIDE (Small Outline; 20 Leads; Body Width 7.5 mm; Pitch 1.27 mm)
ibis mc100lvel92dw (100LVE92 simulation)
3D model SO-20_(Wide) (PCB3D Model)
signal-integrity model 100LVEL92 (100LVEL92 IBIS Signal Integrity Model)
pins: 1 VCC (power), 2 D0 (in), 3 ~{D0} (in), 4 VBB_PECL, 5 D1 (in), 6 ~{D1} (in), 7 VBB_PECL, 8 D2 (in), 9 ~{D2} (in), 10 GND (power), 11 VCC (power), 12 ~{Q2} (out), 13 Q2 (out), 14 LVCC (power), 15 ~{Q1} (out), 16 Q1 (out), 17 LVCC (power), 18 ~{Q0} (out), 19 Q0 (out), 20 VCC (power)

## 100302
designator U?, comment Part Number: 100302  (hidden comment: 100302QC)
OR/NOR Gate, Low Power, ECL; Manufacturer: Fairchild Semiconductor; Output Type: Differential; Current Output High: -50mA; Supply Voltage: -4.2 to -5.7 V; Logic Type: OR/NOR Gate; Current Output Low: N/A; Package Description: PLCC; 28 Leads; Body 11.5 x 11.5 mm; ComponentLink1Description: Datasheet; ComponentLink1URL: \\canopus\EDA\Datasheets\ECL\100302.pdf; Package Type: PLCC-28; Supplier 1: Digi-Key; Supplier Part Number 1: 100302QC-ND; Supplier 2: Mouser; Supplier Part Number 2: 512-100302QC
footprint PLCC-28 (PLCC; 28 Leads; Body 11.5 x 11.5 mm)
3D model PLCC-28 (PCB3D Model)
part A pins: 1 VCC (power), 2 VCCA (power), 8 VEES (power), 14 VEE (power), 15 VEES (power), 16 EN, 22 VEES (power), 28 VCC (power)
part B pins: 7 /Oa (out), 9 Oa (out), 10 D1a (in), 11 D2a (in)
part C pins: 5 Ob (out), 6 /Ob (out), 12 D1b (in), 13 D2b (in)
part D pins: 3 /Oc (out), 4 Oc (out), 17 D1c (in), 18 D2c (in)
part E pins: 19 D1d (in), 20 D2d (in), 26 /Od (out), 27 Od (out)
part F pins: 21 D1e (in), 23 D2e (in), 24 Oe (out), 25 /Oe (out)
part A text: OBSOLETE
part B text: OBSOLETE
part C text: OBSOLETE
part D text: OBSOLETE
part E text: OBSOLETE
part F text: OBSOLETE

## 100311
designator U?, comment 100311QC
Differential Clock Driver, 1:9, ECL; Manufacturer: Fairchild Semiconductor; Current Output High: *; Current Output Low: *; Logic Type: Clock; Output Type: Differential Clock; Package Description: PLCC; 28 Leads; Body 11.5 x 11.5 mm; Schmitt Trigger Output: *; Supply Voltage: *; ComponentLink1Description: Datasheet; ComponentLink1URL: \\canopus\EDA\Datasheets\ECL\100311.pdf; Package Type: PLCC-28; Part Number: 100311QC
footprint PLCC-28 (PLCC; 28 Leads; Body 11.5 x 11.5 mm)
3D model PLCC-28 (PCB3D Model)
pins: 1 VCC (power), 2 ~{IN} (in), 3 VBB (out), 5 ~{Q8} (out), 6 Q8 (out), 7 ~{Q7} (out), 8 VCCO (power), 9 Q7 (out), 10 ~{Q6} (out), 11 Q6 (out), 12 ~{Q5} (out), 13 Q5 (out), 14 ~{Q4} (out), 15 VCCO (power), 16 Q4 (out), 17 ~{Q3} (out), 18 Q3 (out), 19 ~{Q2} (out), 20 Q2 (out), 21 ~{Q1} (out), 22 VCCO (power), 23 Q1 (out), 24 ~{Q0} (out), 25 Q0 (out), 26 VEE (power), 27 ~{EN}, 28 IN (in)
text: OBSOLETE; USE 100E111 INSTEAD

## 100314
designator U?, comment Part Number: 100314  (hidden comment: 100314QC)
Differential Line Receiver, Low Power, ECL; Supplier 1: Digi-Key; Supplier 2: Mouser; Supplier Part Number 1: 100314QC-ND; Supplier Part Number 2: 512-100314QCX; Logic Type: Line Receiver; Output Type: Differential; Current Output High: *; Current Output Low: *; Supply Voltage: *; Package Description: PLCC; 28 Leads; Body 11.5 x 11.5 mm; Manufacturer: *; ComponentLink1Description: Datasheet; ComponentLink1URL: \\canopus\EDA\Datasheets\ECL\100314.pdf; Package Type: PLCC-28
footprint PLCC-28 (PLCC; 28 Leads; Body 11.5 x 11.5 mm)
3D model PLCC-28 (PCB3D Model)
part A pins: 1 VCC (power), 2 VCCA (power), 8 VEES (power), 14 VEE (power), 15 VEES (power), 16 VBB (power), 22 VEES (power), 28 VCC (power)
part B pins: 3 Oc- (out), 4 Oc+ (out), 17 Dc+ (in), 18 Dc- (in)
part C pins: 5 Ob- (out), 6 Ob+ (out), 12 Db+ (in), 13 Db- (in)
part D pins: 7 Oa- (out), 9 Oa+ (out), 10 Da+ (in), 11 Da- (in)
part E pins: 19 Dd+ (in), 20 Dd- (in), 26 Od- (out), 27 Od+ (out)
part F pins: 21 De+ (in), 23 De- (in), 24 Oe- (out), 25 Oe+ (out)
part A text: OBSOLETE
part B text: OBSOLETE
part C text: OBSOLETE
part D text: OBSOLETE
part E text: OBSOLETE
part F text: OBSOLETE

## 100316
designator U?, comment Part Number: 100316  (hidden comment: 100316QC)
Differential Line Receiver, Low Power, ECL; Manufacturer: Fairchild Semiconductor; Logic Type: Line Driver; Supply Voltage: -4.2 V to -5.7 V; Schmitt Trigger Output: *; Output Type: Differential; Current Output High: *; Package Description: PLCC; 28 Leads; Body 11.5 x 11.5 mm; ComponentLink1Description: Datasheet; ComponentLink1URL: \\canopus\EDA\Datasheets\ECL\100316.pdf; Package Type: PLCC-28; Supplier 1: Mouser; Supplier Part Number 1: 512-100316QC
footprint PLCC-28 (PLCC; 28 Leads; Body 11.5 x 11.5 mm)
3D model PLCC-28 (PCB3D Model)
part A pins: 1 VCC (power), 2 VCCA (power), 8 VEES (power), 13 VEEQ (power), 14 VEE (power), 15 VEES (power), 16 OE, 17 VBB (power), 22 VEES (power), 27 VCCQ (power), 28 VCC (power)
part B pins: 20 D1- (in), 21 D1+ (in), 23 Q1+ (out), 24 Q1- (out)
part C pins: 18 D2- (in), 19 D2+ (in), 25 Q2+ (out), 26 Q2- (out)
part D pins: 3 Q3- (out), 4 Q3+ (out), 11 D3+ (in), 12 D3- (in)
part E pins: 5 Q4- (out), 6 Q4+ (out), 9 D4+ (in), 10 D4- (in)
part B text: OBSOLETE
part C text: OBSOLETE
part D text: OBSOLETE
part E text: OBSOLETE